# EAGLE library part SE_UCM (library misc)
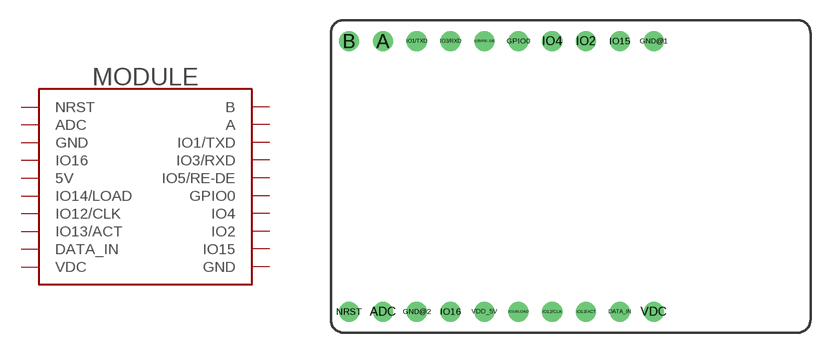
[diagram p60: symbol with the pads of SE_UCM; footprint SE_UCM]

Designator prefix MODULE

## SE_UCM  [SE_UCM]
A  A
ADC  ADC
B  B
DATA_IN  DATA_IN
GND@1  GND
GND@2  GND
GPIO0  GPIO0
IO1/TXD  IO1/TXD
IO2  IO2
IO3/RXD  IO3/RXD
IO4  IO4
IO5/RE-DE  IO5/RE-DE
IO12/CLK  IO12/CLK
IO13/ACT  IO13/ACT
IO14/LOAD  IO14/LOAD
IO15  IO15
IO16  IO16
NRST  NRST
VDC  VDC
VDD_5V  5V

## Footprint SE_UCM (pad centres in mm)
drill 1 pad 1.5: A -15.09,10.16; ADC -15.09,-10.16; B -17.63,10.16; DATA_IN 2.69,-10.16; GND@1 5.23,10.16; GND@2 -12.55,-10.16; GPIO0 -4.93,10.16; IO1/TXD -12.55,10.16; IO2 0.15,10.16; IO3/RXD -10.01,10.16; IO4 -2.39,10.16; IO5/RE-DE -7.47,10.16; IO12/CLK -2.39,-10.16; IO13/ACT 0.15,-10.16; IO14/LOAD -4.93,-10.16; IO15 2.69,10.16; IO16 -10.01,-10.16; NRST -17.63,-10.16; VDC 5.23,-10.16; VDD_5V -7.47,-10.16